# EAGLE library part BQ27421G1 (library GTA04b7)
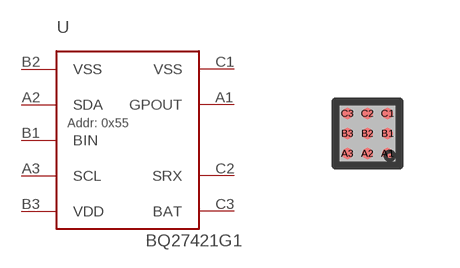
[diagram p9: symbol with the pads of S-XBGA-N9-0.5; footprint S-XBGA-N9-0.5]

Designator prefix -

## BQ27421G1YZF  [S-XBGA-N9-0.5]
A1  GPOUT  oc
A2  SDA
A3  SCL  in
B1  BIN  in
B2  VSS  pwr
B3  VDD  pwr
C1  VSS  pwr
C2  SRX  pas
C3  BAT  pas

## Footprint S-XBGA-N9-0.5 (pad centres in mm)
TI YZF
smd 0.275 x 0.275: A1 0.5,-0.5; A2 0,-0.5; A3 -0.5,-0.5; B1 0.5,0; B2 0,0; B3 -0.5,0; C1 0.5,0.5; C2 0,0.5; C3 -0.5,0.5